# Altium footprint library CON 17X2_Ribbon.PcbLib: 1 footprints
Each footprint in its own frame and in the unit in brackets; x right, y up, seen from the top. Pads: shape width x height; smd on the part's side, far side on the other; paste and mask are expansions set on the pad; w line width, h text height; cw(c..) or ccw(c..) is an arc to the next point about the centre after c.
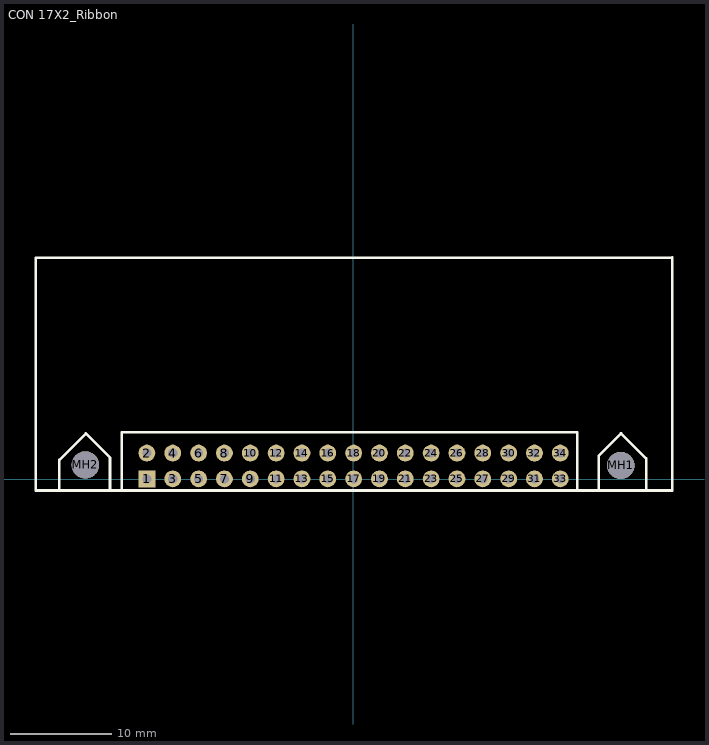
[diagram p0: the footprint, top view; thin cyan lines are the x and y axes]

## CON 17X2_Ribbon [mil] "34 Pin Ribbon Connector"
pads (36):
  rect 65x65 hole 35: 1(-799,2)
  round 65 hole 35: 2(-799,102) 3(-699,2) 4(-699,102) 5(-599,2) 6(-599,102) 7(-499,2) 8(-499,102) 9(-399,2) 10(-399,102) 11(-299,2) 12(-299,102) 13(-199,2) 14(-199,102) 15(-99,2) 16(-99,102) 17(1,2) 18(1,102) 19(101,2) 20(101,102) 21(201,2) 22(201,102) 23(301,2) 24(301,102) 25(401,2) 26(401,102) 27(501,2) 28(501,102) 29(601,2) 30(601,102) 31(701,2) 32(701,102) 33(801,2) 34(801,102)
  round 106 hole 106: MH1(1035,54) MH2(-1037,56)
Top Overlay:
  lines w10: -1138,-43 -1138,75 -1035,178 -1035,177 -942,84 -942,-43 ; -896,-39 -896,165 -896,183 867,183 867,-41 ; 950,-43 950,92 1036,178 1133,81 1133,-39 ; 1233,858 -1229,858 -1229,-43 1234,-43 1234,859
3D body: height 352.32, standoff -112.24, extent -1230.31,-47.97 1230.32,859.11